# Altium footprint library altium_footprint.PcbLib: 36 footprints (part 2 of 3)
Each footprint in its own frame and in the unit in brackets; x right, y up, seen from the top. Pads: shape width x height; smd on the part's side, far side on the other; paste and mask are expansions set on the pad; w line width, h text height; cw(c..) or ccw(c..) is an arc to the next point about the centre after c.
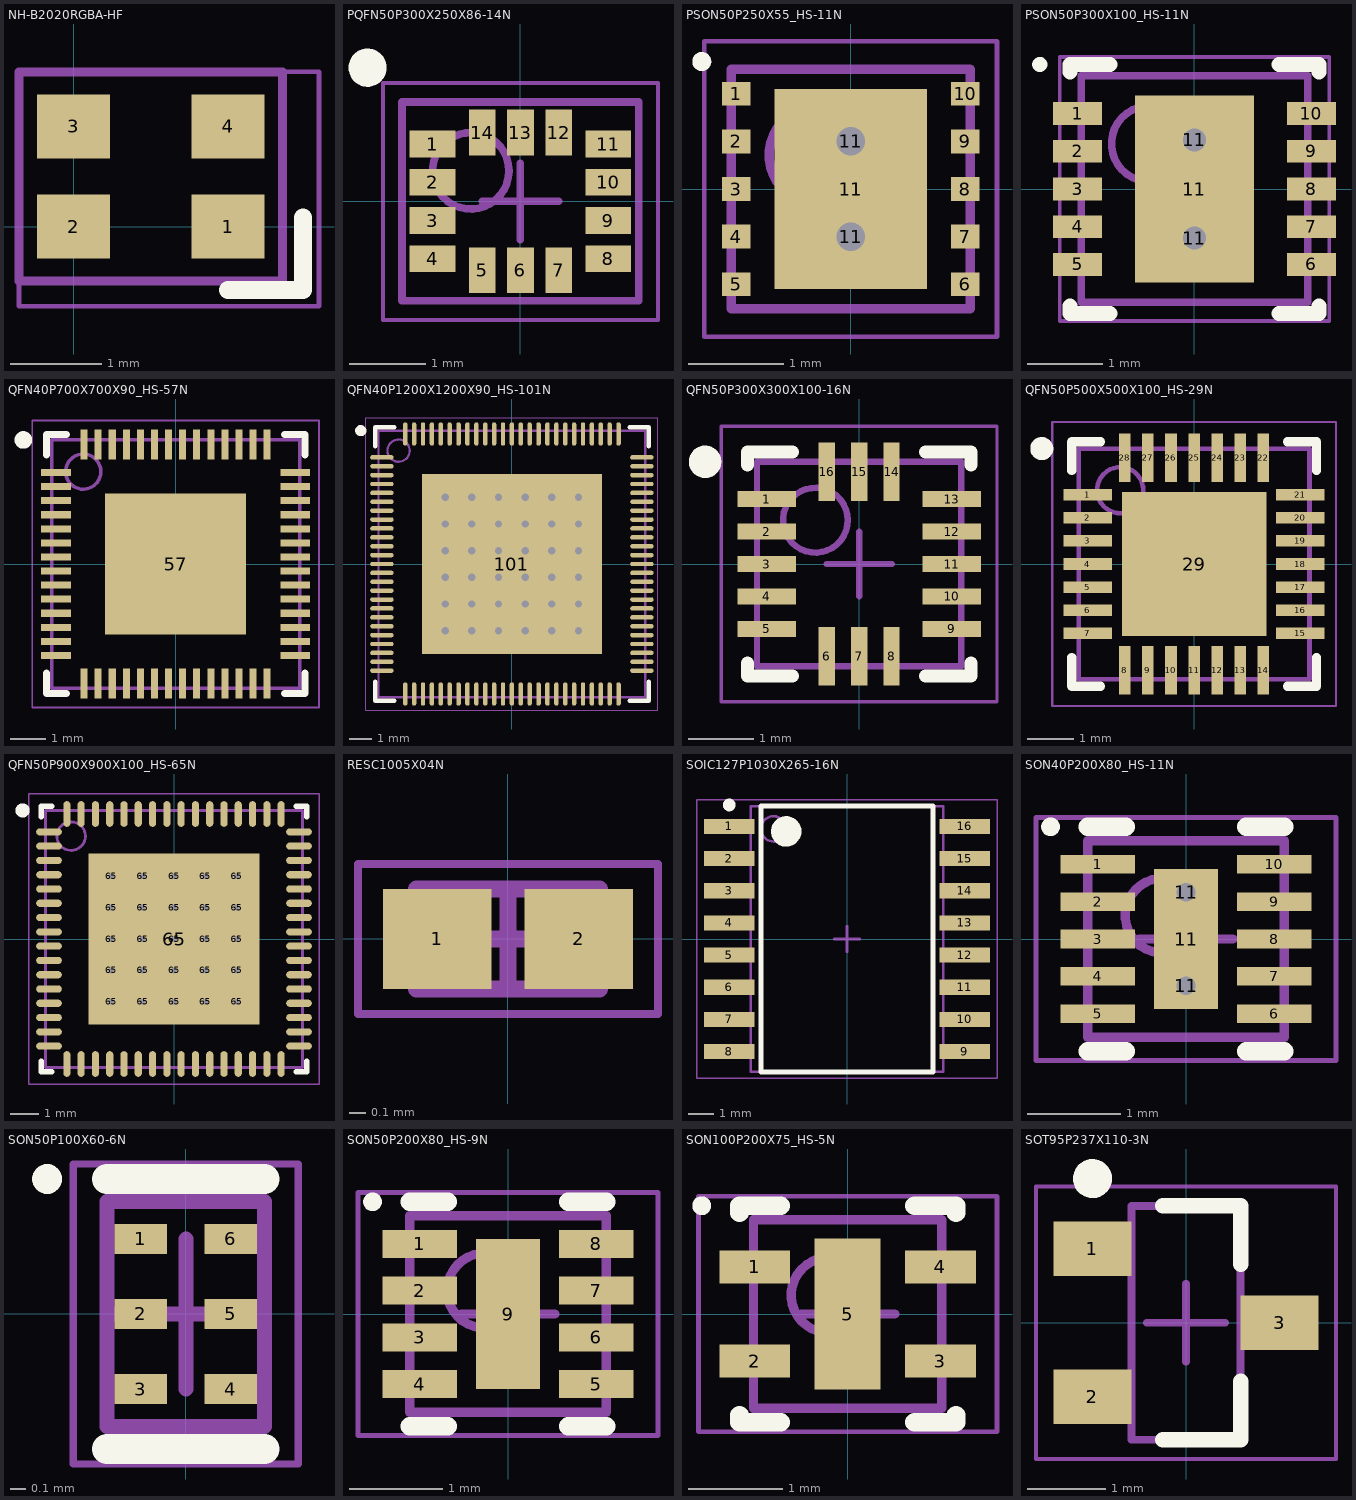
[diagram p1: the footprints below, top view; thin cyan lines are the x and y axes]

## NH-B2020RGBA-HF [mm] "NH-B2020RGBA-HF"
pads (4):
  rect 0.8x0.7 smd: 1(1.7,0) 2(0,0) 3(0,1.1) 4(1.7,1.1)
Top Overlay:
  lines w0.2: 1.7,-0.7 2.525,-0.7 2.525,0.1
Top Assembly:
  lines w0.1: -0.6,-0.6 2.3,-0.6 2.3,1.7 -0.6,1.7 -0.6,-0.6
Top Courtyard:
  lines w0.05: -0.6,-0.875 -0.6,1.7 2.7,1.7 2.7,-0.875 -0.6,-0.875
3D body: height 1, standoff 0, extent -0.2,-0.5 1.9,1.6

## PQFN50P300X250X86-14N [mm] "PQFN, 14-Leads, Body 3.00x2.50mm, Pitch 0.50mm, IPC Medium Density"
height 0.86
pads (14):
  rect 0.6x0.35 smd: 1(-1.15,0.75) 2(-1.15,0.25) 3(-1.15,-0.25) 4(-1.15,-0.75) 8(1.15,-0.75) 9(1.15,-0.25) 10(1.15,0.25) 11(1.15,0.75)
  rect 0.35x0.6 smd: 5(-0.5,-0.9) 6(0,-0.9) 7(0.5,-0.9) 12(0.5,0.9) 13(0,0.9) 14(-0.5,0.9)
Top Overlay:
  circle w0.25: c-2,1.75 r0.125
Top Assembly:
  circle w0.1: c-0.65,0.4 r0.5
  lines w0.1: -1.55,-1.3 -1.55,1.3 1.55,1.3 1.55,-1.3 -1.55,-1.3
Top Courtyard:
  lines w0.05: -1.8,-1.55 -1.8,1.55 1.8,1.55 1.8,-1.55 -1.8,-1.55
  lines w0.1: -0.5,0 0.5,0 ; 0,-0.5 0,0.5
3D body: height 0.86, standoff 0, extent -1.55,-1.3 1.55,1.3

## PSON50P250X55_HS-11N [mm] "PSON, 10-Leads, Body 2.50x2.50mm, Pitch 0.50mm, Thermal Pad 2.10x1.41mm, IPC Medium Density"
height 0.55
pads (13):
  rect 0.3x0.25 smd: 1(-1.2,1) 2(-1.2,0.5) 3(-1.2,0) 4(-1.2,-0.5) 5(-1.2,-1) 6(1.2,-1) 7(1.2,-0.5) 8(1.2,0) 9(1.2,0.5) 10(1.2,1)
  round 0.6 hole 0.3: 11(0,-0.5) 11(0,0.5)
  rect 1.6x2.1 smd paste-2539.97: 11(0,0)
Top Overlay:
  circle w0.1: c-1.562,1.337 r0.05
Top Paste:
  rectangle: -0.675,0.1 0.675,0.925
  region: 0.675,-0.1 -0.675,-0.1 -0.675,-0.925 0.675,-0.925
Top Assembly:
  circle w0.1: c-0.355,0.355 r0.5
  lines w0.1: -1.255,-1.255 -1.255,1.255 1.255,1.255 1.255,-1.255 -1.255,-1.255
Top Courtyard:
  lines w0.05: -1.535,-1.55 -1.535,1.55 1.535,1.55 1.535,-1.55 -1.535,-1.55
  lines w0.1: -0.5,0 0.5,0 ; 0,-0.5 0,0.5
3D body: height 0.55, standoff 0, extent -1.255,-1.255 1.255,1.255

## PSON50P300X100_HS-11N [mm] "PSON, 10-Leads, Body 3.00x3.00mm, Pitch 0.50mm, Thermal Pad 2.30x1.58mm, IPC Medium Density"
height 1
pads (13):
  rect 0.65x0.3 smd: 1(-1.55,1) 2(-1.55,0.5) 3(-1.55,0) 4(-1.55,-0.5) 5(-1.55,-1) 6(1.55,-1) 7(1.55,-0.5) 8(1.55,0) 9(1.55,0.5) 10(1.55,1)
  round 0.5 hole 0.3: 11(0,-0.65) 11(0,0.65)
  rect 1.58x2.48 smd paste-2539.97: 11(0,0)
Top Overlay:
  circle w0.1: c-2.05,1.65 r0.05
  lines w0.2: -1.65,-1.55 -1.65,-1.65 -1.12,-1.65 ; -1.65,1.55 -1.65,1.65 -1.12,1.65 ; 1.12,-1.65 1.65,-1.65 1.65,-1.55 ; 1.12,1.65 1.65,1.65 1.65,1.55
Top Paste:
  region: 0.7,-0.1 -0.7,-0.1 -0.7,-1.1 0.7,-1.1
  rectangle: -0.7,0.1 0.7,1.1
Top Assembly:
  circle w0.1: c-0.6,0.6 r0.5
  lines w0.1: -1.5,-1.5 -1.5,1.5 1.5,1.5 1.5,-1.5 -1.5,-1.5
Top Courtyard:
  lines w0.05: -1.785,-1.75 -1.785,1.75 1.785,1.75 1.785,-1.75 -1.785,-1.75
  lines w0.1: -0.5,0 0.5,0 ; 0,-0.5 0,0.5
3D body: height 1, standoff 0, extent -1.5,-1.5 1.5,1.5

## QFN40P700X700X90_HS-57N [mm] "QFN, 56-Leads, Body 7.00x7.00mm, Pitch 0.40mm, Thermal Pad 4.00x4.00mm, IPC Medium Density"
height 0.9
pads (57):
  rect 0.85x0.2 smd: 1(-3.4,2.6) 2(-3.4,2.2) 3(-3.4,1.8) 4(-3.4,1.4) 5(-3.4,1) 6(-3.4,0.6) 7(-3.4,0.2) 8(-3.4,-0.2) 9(-3.4,-0.6) 10(-3.4,-1) 11(-3.4,-1.4) 12(-3.4,-1.8) 13(-3.4,-2.2) 14(-3.4,-2.6) 29(3.4,-2.6) 30(3.4,-2.2) 31(3.4,-1.8) 32(3.4,-1.4) 33(3.4,-1) 34(3.4,-0.6) 35(3.4,-0.2) 36(3.4,0.2) 37(3.4,0.6) 38(3.4,1) 39(3.4,1.4) 40(3.4,1.8) 41(3.4,2.2) 42(3.4,2.6)
  rect 0.2x0.85 smd: 15(-2.6,-3.4) 16(-2.2,-3.4) 17(-1.8,-3.4) 18(-1.4,-3.4) 19(-1,-3.4) 20(-0.6,-3.4) 21(-0.2,-3.4) 22(0.2,-3.4) 23(0.6,-3.4) 24(1,-3.4) 25(1.4,-3.4) 26(1.8,-3.4) 27(2.2,-3.4) 28(2.6,-3.4) 43(2.6,3.4) 44(2.2,3.4) 45(1.8,3.4) 46(1.4,3.4) 47(1,3.4) 48(0.6,3.4) 49(0.2,3.4) 50(-0.2,3.4) 51(-0.6,3.4) 52(-1,3.4) 53(-1.4,3.4) 54(-1.8,3.4) 55(-2.2,3.4) 56(-2.6,3.4)
  rect 4x4 smd paste-2539.97: 57(0,0)
Top Overlay:
  circle w0.25: c-4.325,3.525 r0.125
  lines w0.2: -3.675,-3.1 -3.675,-3.675 -3.1,-3.675 ; -3.675,3.1 -3.675,3.675 -3.1,3.675 ; 3.1,-3.675 3.675,-3.675 3.675,-3.1 ; 3.1,3.675 3.675,3.675 3.675,3.1
Top Paste:
  region: -1.8,1.8 -1.8,0.1 -0.1,0.1 -0.1,1.8
  region: -1.8,-1.8 -0.1,-1.8 -0.1,-0.1 -1.8,-0.1
  region: 1.8,-1.8 1.8,-0.1 0.1,-0.1 0.1,-1.8
  region: 1.8,1.8 0.1,1.8 0.1,0.1 1.8,0.1
Top Assembly:
  circle w0.1: c-2.625,2.625 r0.5
  lines w0.1: -3.525,-3.525 3.525,-3.525 3.525,3.525 -3.525,3.525 -3.525,-3.525
Top Courtyard:
  lines w0.05: -4.075,-4.075 4.075,-4.075 4.075,4.075 -4.075,4.075 -4.075,-4.075
  lines w0.1: -0.5,0 0.5,0 ; 0,-0.5 0,0.5
3D body: height 0.9, standoff 0.05, extent -3.525,-3.525 3.525,3.525

## QFN40P1200X1200X90_HS-101N [mm] "QFN, 100-Leads, Body 12.00x12.00mm, Pitch 0.40mm, Thermal Pad 8.10x8.10mm, IPC Medium Density"
height 0.9
pads (137):
  oval 1.05x0.2 smd: 1(-5.85,4.8) 2(-5.85,4.4) 3(-5.85,4) 4(-5.85,3.6) 5(-5.85,3.2) 6(-5.85,2.8) 7(-5.85,2.4) 8(-5.85,2) 9(-5.85,1.6) 10(-5.85,1.2) 11(-5.85,0.8) 12(-5.85,0.4) 13(-5.85,0) 14(-5.85,-0.4) 15(-5.85,-0.8) 16(-5.85,-1.2) 17(-5.85,-1.6) 18(-5.85,-2) 19(-5.85,-2.4) 20(-5.85,-2.8) 21(-5.85,-3.2) 22(-5.85,-3.6) 23(-5.85,-4) 24(-5.85,-4.4) 25(-5.85,-4.8) 51(5.85,-4.8) 52(5.85,-4.4) 53(5.85,-4) 54(5.85,-3.6) 55(5.85,-3.2) 56(5.85,-2.8) 57(5.85,-2.4) 58(5.85,-2) 59(5.85,-1.6) 60(5.85,-1.2) 61(5.85,-0.8) 62(5.85,-0.4) 63(5.85,0) 64(5.85,0.4) 65(5.85,0.8) 66(5.85,1.2) 67(5.85,1.6) 68(5.85,2) 69(5.85,2.4) 70(5.85,2.8) 71(5.85,3.2) 72(5.85,3.6) 73(5.85,4) 74(5.85,4.4) 75(5.85,4.8)
  oval 0.2x1.05 smd: 26(-4.8,-5.85) 27(-4.4,-5.85) 28(-4,-5.85) 29(-3.6,-5.85) 30(-3.2,-5.85) 31(-2.8,-5.85) 32(-2.4,-5.85) 33(-2,-5.85) 34(-1.6,-5.85) 35(-1.2,-5.85) 36(-0.8,-5.85) 37(-0.4,-5.85) 38(0,-5.85) 39(0.4,-5.85) 40(0.8,-5.85) 41(1.2,-5.85) 42(1.6,-5.85) 43(2,-5.85) 44(2.4,-5.85) 45(2.8,-5.85) 46(3.2,-5.85) 47(3.6,-5.85) 48(4,-5.85) 49(4.4,-5.85) 50(4.8,-5.85) 76(4.8,5.85) 77(4.4,5.85) 78(4,5.85) 79(3.6,5.85) 80(3.2,5.85) 81(2.8,5.85) 82(2.4,5.85) 83(2,5.85) 84(1.6,5.85) 85(1.2,5.85) 86(0.8,5.85) 87(0.4,5.85) 88(0,5.85) 89(-0.4,5.85) 90(-0.8,5.85) 91(-1.2,5.85) 92(-1.6,5.85) 93(-2,5.85) 94(-2.4,5.85) 95(-2.8,5.85) 96(-3.2,5.85) 97(-3.6,5.85) 98(-4,5.85) 99(-4.4,5.85) 100(-4.8,5.85)
  round 0.6 hole 0.33: 101(-3,-3) 101(-3,-1.8) 101(-3,-0.6) 101(-3,0.6) 101(-3,1.8) 101(-3,3) 101(-1.8,-3) 101(-1.8,-1.8) 101(-1.8,-0.6) 101(-1.8,0.6) 101(-1.8,1.8) 101(-1.8,3) 101(-0.6,-3) 101(-0.6,-1.8) 101(-0.6,-0.6) 101(-0.6,0.6) 101(-0.6,1.8) 101(-0.6,3) 101(0.6,-3) 101(0.6,-1.8) 101(0.6,-0.6) 101(0.6,0.6) 101(0.6,1.8) 101(0.6,3) 101(1.8,-3) 101(1.8,-1.8) 101(1.8,-0.6) 101(1.8,0.6) 101(1.8,1.8) 101(1.8,3) 101(3,-3) 101(3,-1.8) 101(3,-0.6) 101(3,0.6) 101(3,1.8) 101(3,3)
  rect 8.1x8.1 smd paste-0.1: 101(0,0)
Top Overlay:
  circle w0.25: c-6.8,6 r0.125
  lines w0.2: -6.15,-5.3 -6.15,-6.15 -5.3,-6.15 ; -6.15,5.3 -6.15,6.15 -5.3,6.15 ; 5.3,-6.15 6.15,-6.15 6.15,-5.3 ; 5.3,6.15 6.15,6.15 6.15,5.3
Top Assembly:
  circle w0.1: c-5.1,5.1 r0.5
  lines w0.1: -6,-6 6,-6 6,6 -6,6 -6,-6
Top Courtyard:
  lines w0.05: -6.575,-6.575 6.575,-6.575 6.575,6.575 -6.575,6.575 -6.575,-6.575
  lines w0.1: -0.5,0 0.5,0 ; 0,-0.5 0,0.5
3D body: height 0.9, standoff 0.05, extent -6,-6 6,6

## QFN50P300X300X100-16N [mm] "QFN, 16-Leads, Body 3.00x3.00mm, Pitch 0.50mm, IPC Medium Density"
height 1
pads (16):
  rect 0.9x0.25 smd: 1(-1.425,1) 2(-1.425,0.5) 3(-1.425,0) 4(-1.425,-0.5) 5(-1.425,-1) 9(1.425,-1) 10(1.425,-0.5) 11(1.425,0) 12(1.425,0.5) 13(1.425,1)
  rect 0.25x0.9 smd: 6(-0.5,-1.425) 7(0,-1.425) 8(0.5,-1.425) 14(0.5,1.425) 15(0,1.425) 16(-0.5,1.425)
Top Overlay:
  circle w0.25: c-2.375,1.575 r0.125
  lines w0.2: -1.725,-1.525 -1.725,-1.725 -1.025,-1.725 ; -1.725,1.525 -1.725,1.725 -1.025,1.725 ; 1.025,-1.725 1.725,-1.725 1.725,-1.525 ; 1.025,1.725 1.725,1.725 1.725,1.525
Top Assembly:
  circle w0.1: c-0.675,0.675 r0.5
  lines w0.1: -1.575,-1.575 1.575,-1.575 1.575,1.575 -1.575,1.575 -1.575,-1.575
Top Courtyard:
  lines w0.05: -2.125,-2.125 2.125,-2.125 2.125,2.125 -2.125,2.125 -2.125,-2.125
  lines w0.1: -0.5,0 0.5,0 ; 0,-0.5 0,0.5
3D body: height 1, standoff 0.05, extent -1.575,-1.575 1.575,1.575

## QFN50P500X500X100_HS-29N [mm] "QFN, 28-Leads, Body 5.00x5.00mm, Pitch 0.50mm, Thermal Pad 3.13x3.13mm, IPC Medium Density"
height 1
pads (29):
  rect 1.05x0.25 smd: 1(-2.3,1.5) 2(-2.3,1) 3(-2.3,0.5) 4(-2.3,0) 5(-2.3,-0.5) 6(-2.3,-1) 7(-2.3,-1.5) 15(2.3,-1.5) 16(2.3,-1) 17(2.3,-0.5) 18(2.3,0) 19(2.3,0.5) 20(2.3,1) 21(2.3,1.5)
  rect 0.25x1.05 smd: 8(-1.5,-2.3) 9(-1,-2.3) 10(-0.5,-2.3) 11(0,-2.3) 12(0.5,-2.3) 13(1,-2.3) 14(1.5,-2.3) 22(1.5,2.3) 23(1,2.3) 24(0.5,2.3) 25(0,2.3) 26(-0.5,2.3) 27(-1,2.3) 28(-1.5,2.3)
  rect 3.13x3.13 smd paste-2539.97: 29(0,0)
Top Overlay:
  circle w0.25: c-3.3,2.5 r0.125
  lines w0.2: -2.65,-2.025 -2.65,-2.65 -2.025,-2.65 ; -2.65,2.025 -2.65,2.65 -2.025,2.65 ; 2.025,-2.65 2.65,-2.65 2.65,-2.025 ; 2.025,2.65 2.65,2.65 2.65,2.025
Top Paste:
  region: -0.112,-0.112 -0.112,-1.437 -1.437,-1.437 -1.437,-0.112
  region: -0.112,0.112 -1.437,0.112 -1.437,1.437 -0.112,1.437
  region: 0.125,-0.112 1.45,-0.112 1.45,-1.437 0.125,-1.437
  region: 0.125,0.112 0.125,1.437 1.45,1.437 1.45,0.112
Top Assembly:
  circle w0.1: c-1.6,1.6 r0.5
  lines w0.1: -2.5,-2.5 -2.5,2.5 2.5,2.5 2.5,-2.5 -2.5,-2.5
Top Courtyard:
  lines w0.05: -3.075,-3.075 -3.075,3.075 3.075,3.075 3.075,-3.075 -3.075,-3.075
  lines w0.1: -0.5,0 0.5,0 ; 0,-0.5 0,0.5
3D body: height 1, standoff 0.05, extent -2.5,-2.5 2.5,2.5

## QFN50P900X900X100_HS-65N [mm] "QFN, 64-Leads, Body 9.00x9.00mm, Pitch 0.50mm, Thermal Pad 6.00x6.00mm, IPC Medium Density"
height 1
pads (90):
  oval 0.9x0.25 smd: 1(-4.375,3.75) 2(-4.375,3.25) 3(-4.375,2.75) 4(-4.375,2.25) 5(-4.375,1.75) 6(-4.375,1.25) 7(-4.375,0.75) 8(-4.375,0.25) 9(-4.375,-0.25) 10(-4.375,-0.75) 11(-4.375,-1.25) 12(-4.375,-1.75) 13(-4.375,-2.25) 14(-4.375,-2.75) 15(-4.375,-3.25) 16(-4.375,-3.75) 33(4.375,-3.75) 34(4.375,-3.25) 35(4.375,-2.75) 36(4.375,-2.25) 37(4.375,-1.75) 38(4.375,-1.25) 39(4.375,-0.75) 40(4.375,-0.25) 41(4.375,0.25) 42(4.375,0.75) 43(4.375,1.25) 44(4.375,1.75) 45(4.375,2.25) 46(4.375,2.75) 47(4.375,3.25) 48(4.375,3.75)
  oval 0.25x0.9 smd: 17(-3.75,-4.375) 18(-3.25,-4.375) 19(-2.75,-4.375) 20(-2.25,-4.375) 21(-1.75,-4.375) 22(-1.25,-4.375) 23(-0.75,-4.375) 24(-0.25,-4.375) 25(0.25,-4.375) 26(0.75,-4.375) 27(1.25,-4.375) 28(1.75,-4.375) 29(2.25,-4.375) 30(2.75,-4.375) 31(3.25,-4.375) 32(3.75,-4.375) 49(3.75,4.375) 50(3.25,4.375) 51(2.75,4.375) 52(2.25,4.375) 53(1.75,4.375) 54(1.25,4.375) 55(0.75,4.375) 56(0.25,4.375) 57(-0.25,4.375) 58(-0.75,4.375) 59(-1.25,4.375) 60(-1.75,4.375) 61(-2.25,4.375) 62(-2.75,4.375) 63(-3.25,4.375) 64(-3.75,4.375)
  round 0.5 hole 0.2: 65(-2.2,-2.2) 65(-2.2,-1.1) 65(-2.2,0) 65(-2.2,1.1) 65(-2.2,2.2) 65(-1.1,-2.2) 65(-1.1,-1.1) 65(-1.1,0) 65(-1.1,1.1) 65(-1.1,2.2) 65(0,-2.2) 65(0,-1.1) 65(0,0) 65(0,1.1) 65(0,2.2) 65(1.1,-2.2) 65(1.1,-1.1) 65(1.1,0) 65(1.1,1.1) 65(1.1,2.2) 65(2.2,-2.2) 65(2.2,-1.1) 65(2.2,0) 65(2.2,1.1) 65(2.2,2.2)
  rect 6x6 smd paste-0.1: 65(0,0)
Top Overlay:
  circle w0.25: c-5.3,4.5 r0.125
  lines w0.2: -4.65,-4.275 -4.65,-4.65 -4.275,-4.65 ; -4.65,4.275 -4.65,4.65 -4.275,4.65 ; 4.275,-4.65 4.65,-4.65 4.65,-4.275 ; 4.275,4.65 4.65,4.65 4.65,4.275
Top Assembly:
  circle w0.1: c-3.6,3.6 r0.5
  lines w0.1: -4.5,-4.5 -4.5,4.5 4.5,4.5 4.5,-4.5 -4.5,-4.5
Top Courtyard:
  lines w0.05: -5.075,-5.075 -5.075,5.075 5.075,5.075 5.075,-5.075 -5.075,-5.075
  lines w0.1: -0.5,0 0.5,0 ; 0,-0.5 0,0.5
3D body: height 1, standoff 0.05, extent -4.5,-4.5 4.5,4.5

## RESC1005X04N [mm] "Chip Resistor, 2-Leads, Body 1.00x0.50mm, IPC Medium Density"
height 0.4
pads (2):
  rect 0.65x0.6 smd: 1(-0.425,0) 2(0.425,0)
Top Assembly:
  lines w0.1: -0.55,-0.3 0.55,-0.3 0.55,0.3 -0.55,0.3 -0.55,-0.3
Top Courtyard:
  lines w0.05: -0.9,-0.45 0.9,-0.45 0.9,0.45 -0.9,0.45 -0.9,-0.45
  lines w0.1: -0.3,0 0.3,0 ; 0,-0.3 0,0.3
3D body: height 0.4, standoff 0, extent 0.3,-0.3 0.55,0.3
3D body: height 0.4, standoff 0, extent -0.55,-0.3 -0.3,0.3
3D body: height 0.4, standoff 0, extent -0.3,-0.3 0.3,0.3

## SOIC127P1030X265-16N [mm] "SOIC, 16-Leads, Body 10.30x7.50mm, Pitch 1.27mm, IPC Medium Density"
height 2.65
pads (16):
  rect 2x0.6 smd: 1(-4.65,4.445) 2(-4.65,3.175) 3(-4.65,1.905) 4(-4.65,0.635) 5(-4.65,-0.635) 6(-4.65,-1.905) 7(-4.65,-3.175) 8(-4.65,-4.445) 9(4.65,-4.445) 10(4.65,-3.175) 11(4.65,-1.905) 12(4.65,-0.635) 13(4.65,0.635) 14(4.65,1.905) 15(4.65,3.175) 16(4.65,4.445)
Top Overlay:
  circle w0.6: c-2.4,4.25 r0.3
  circle w0.25: c-4.65,5.295 r0.125
  lines w0.2: -3.4,-5.25 3.4,-5.25 3.4,5.25 -3.4,5.25 -3.4,-5.25
Top Assembly:
  circle w0.1: c-2.9,4.35 r0.5
  lines w0.1: -3.8,-5.25 3.8,-5.25 3.8,5.25 -3.8,5.25 -3.8,-5.25
Top Courtyard:
  lines w0.05: -5.925,-5.5 5.925,-5.5 5.925,5.5 -5.925,5.5 -5.925,-5.5
  lines w0.1: -0.5,0 0.5,0 ; 0,-0.5 0,0.5
3D body: height 2.65, standoff 0.3, extent -3.8,-5.25 3.8,5.25

## SON40P200X80_HS-11N [mm] "SON, 10-Leads, Body 2.00x2.00mm, Pitch 0.40mm, Thermal Pad 1.50x0.69mm, IPC Medium Density"
height 0.8
pads (13):
  rect 0.8x0.2 smd: 1(-0.945,0.8) 2(-0.945,0.4) 3(-0.945,0) 4(-0.945,-0.4) 5(-0.945,-0.8) 6(0.945,-0.8) 7(0.945,-0.4) 8(0.945,0) 9(0.945,0.4) 10(0.945,0.8)
  round 0.4 hole 0.2: 11(0,-0.5) 11(0,0.5)
  rect 0.69x1.5 smd paste-2539.97: 11(0,0)
Top Overlay:
  circle w0.1: c-1.45,1.2 r0.05
  lines w0.2: -1.05,-1.2 -0.645,-1.2 ; -1.05,1.2 -0.645,1.2 ; 0.645,-1.2 1.05,-1.2 ; 0.645,1.2 1.05,1.2
Top Paste:
  region: -0.3,-0.7 -0.3,0.7 0.3,0.7 0.3,-0.7
Top Assembly:
  circle w0.1: c-0.25,0.25 r0.4
  lines w0.1: -1.05,-1.05 1.05,-1.05 1.05,1.05 -1.05,1.05 -1.05,-1.05
Top Courtyard:
  lines w0.05: -1.605,-1.3 1.605,-1.3 1.605,1.3 -1.605,1.3 -1.605,-1.3
  lines w0.1: -0.5,0 0.5,0 ; 0,-0.5 0,0.5
3D body: height 0.8, standoff 0.05, extent -1.05,-1.05 1.05,1.05

## SON50P100X60-6N [mm] "SON, 6-Leads, Body 1.45x1.00mm, Pitch 0.50mm, IPC Medium Density"
height 0.6
pads (6):
  rect 0.35x0.2 smd: 1(-0.3,0.5) 2(-0.3,0) 3(-0.3,-0.5) 4(0.3,-0.5) 5(0.3,0) 6(0.3,0.5)
Top Overlay:
  circle w0.1: c-0.925,0.9 r0.05
  lines w0.2: -0.525,-0.9 0.525,-0.9 ; -0.525,0.9 0.525,0.9
Top Assembly:
  lines w0.1: -0.525,-0.75 -0.525,0.75 0.525,0.75 0.525,-0.75 -0.525,-0.75
Top Courtyard:
  lines w0.05: -0.75,-1 -0.75,1 0.75,1 0.75,-1 -0.75,-1
  lines w0.1: -0.5,0 0.5,0 ; 0,-0.5 0,0.5
3D body: height 0.6, standoff 0.05, extent -0.525,-0.75 0.525,0.75

## SON50P200X80_HS-9N [mm] "SON, 8-Leads, Body 2.00x2.00mm, Pitch 0.50mm, Thermal Pad 1.60x0.69mm, IPC Medium Density"
height 0.8
pads (9):
  rect 0.8x0.3 smd: 1(-0.945,0.75) 2(-0.945,0.25) 3(-0.945,-0.25) 4(-0.945,-0.75) 5(0.945,-0.75) 6(0.945,-0.25) 7(0.945,0.25) 8(0.945,0.75)
  rect 0.69x1.6 smd paste-2539.97: 9(0,0)
Top Overlay:
  circle w0.1: c-1.45,1.2 r0.05
  lines w0.2: -1.05,-1.2 -0.645,-1.2 ; -1.05,1.2 -0.645,1.2 ; 0.645,-1.2 1.05,-1.2 ; 0.645,1.2 1.05,1.2
Top Paste:
  region: -0.275,0.725 0.275,0.725 0.275,-0.725 -0.275,-0.725
Top Assembly:
  circle w0.1: c-0.25,0.25 r0.4
  lines w0.1: -1.05,-1.05 -1.05,1.05 1.05,1.05 1.05,-1.05 -1.05,-1.05
Top Courtyard:
  lines w0.05: -1.605,-1.3 -1.605,1.3 1.605,1.3 1.605,-1.3 -1.605,-1.3
  lines w0.1: -0.5,0 0.5,0 ; 0,-0.5 0,0.5
3D body: height 0.8, standoff 0.05, extent -1.05,-1.05 1.05,1.05

## SON100P200X75_HS-5N [mm] "SON, 4-Leads, Body 2.00x2.00mm, Pitch 1.00mm, Thermal Pad 1.60x0.70mm, IPC Medium Density"
height 0.75
pads (5):
  rect 0.75x0.35 smd: 1(-0.985,0.5) 2(-0.985,-0.5) 3(0.985,-0.5) 4(0.985,0.5)
  rect 0.7x1.6 smd: 5(0,0)
Top Overlay:
  circle w0.1: c-1.55,1.15 r0.05
  lines w0.2: -1.15,-1.075 -1.15,-1.15 -0.71,-1.15 ; -1.15,1.075 -1.15,1.15 -0.71,1.15 ; 0.71,-1.15 1.15,-1.15 1.15,-1.075 ; 0.71,1.15 1.15,1.15 1.15,1.075
Top Assembly:
  circle w0.1: c-0.2,0.2 r0.4
  lines w0.1: -1,-1 1,-1 1,1 -1,1 -1,-1
Top Courtyard:
  lines w0.05: -1.585,-1.25 1.585,-1.25 1.585,1.25 -1.585,1.25 -1.585,-1.25
  lines w0.1: -0.5,0 0.5,0 ; 0,-0.5 0,0.5
3D body: height 0.75, standoff 0.05, extent -1,-1 1,1

## SOT95P237X110-3N [mm] "SOT23, 3-Leads, Body 2.90x2.37mm, Pitch 0.95mm, IPC Medium Density"
height 1.1
pads (3):
  rect 1x0.7 smd: 1(-1.2,0.95) 2(-1.2,-0.95) 3(1.2,0)
Top Overlay:
  circle w0.25: c-1.2,1.85 r0.125
  lines w0.2: -0.3,-1.5 0.7,-1.5 0.7,-0.75 ; -0.3,1.5 0.7,1.5 0.7,0.75
Top Assembly:
  lines w0.1: -0.7,-1.5 -0.7,1.5 0.7,1.5 0.7,-1.5 -0.7,-1.5
Top Courtyard:
  lines w0.05: -1.925,-1.75 -1.925,1.75 1.925,1.75 1.925,-1.75 -1.925,-1.75
  lines w0.1: -0.5,0 0.5,0 ; 0,-0.5 0,0.5
3D body: height 1.1, standoff 0.05, extent -0.7,-1.5 0.7,1.5